# EAGLE library part MAX3222 (library MAX3222)
3V to 5.5V Multichannel RS-232 Line Driver/Receiver
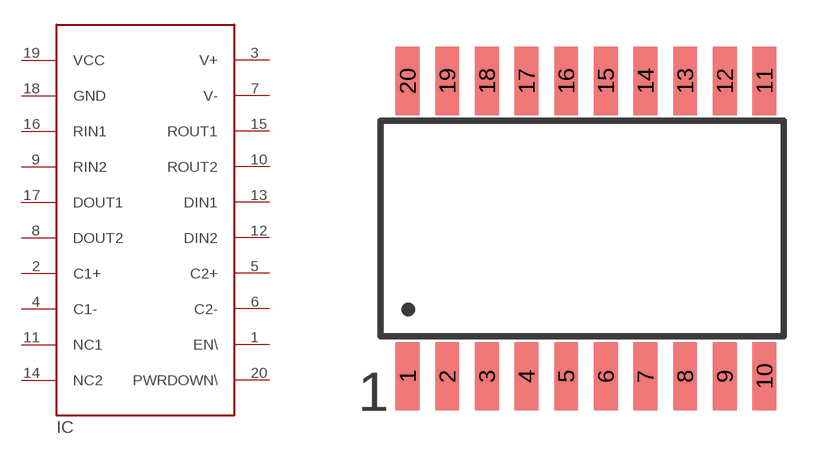
[diagram p0: symbol with the pads of SO-20DW; footprint SO-20DW]

Designator prefix IC

## MAX3222  [SO-20DW]
1  EN\  in
2  C1+
3  V+
4  C1-
5  C2+
6  C2-
7  V-
8  DOUT2  out
9  RIN2  in
10  ROUT2  out
11  NC1  nc
12  DIN2  in
13  DIN1  in
14  NC2  nc
15  ROUT1  out
16  RIN1  in
17  DOUT1  out
18  GND  pwr
19  VCC  pwr
20  PWRDOWN\  in

## Footprint SO-20DW (pad centres in mm)
Small Outline Integrated Circuit wide
smd 0.762 x 2.184: 1 -5.715,-4.727; 2 -4.445,-4.727; 3 -3.175,-4.727; 4 -1.905,-4.727; 5 -0.635,-4.727; 6 0.635,-4.727; 7 1.905,-4.727; 8 3.175,-4.727; 9 4.445,-4.727; 10 5.715,-4.727; 11 5.715,4.727; 12 4.445,4.727; 13 3.175,4.727; 14 1.905,4.727; 15 0.635,4.727; 16 -0.635,4.727; 17 -1.905,4.727; 18 -3.175,4.727; 19 -4.445,4.727; 20 -5.715,4.727